# EAGLE library part PIC24FJ (library X893)
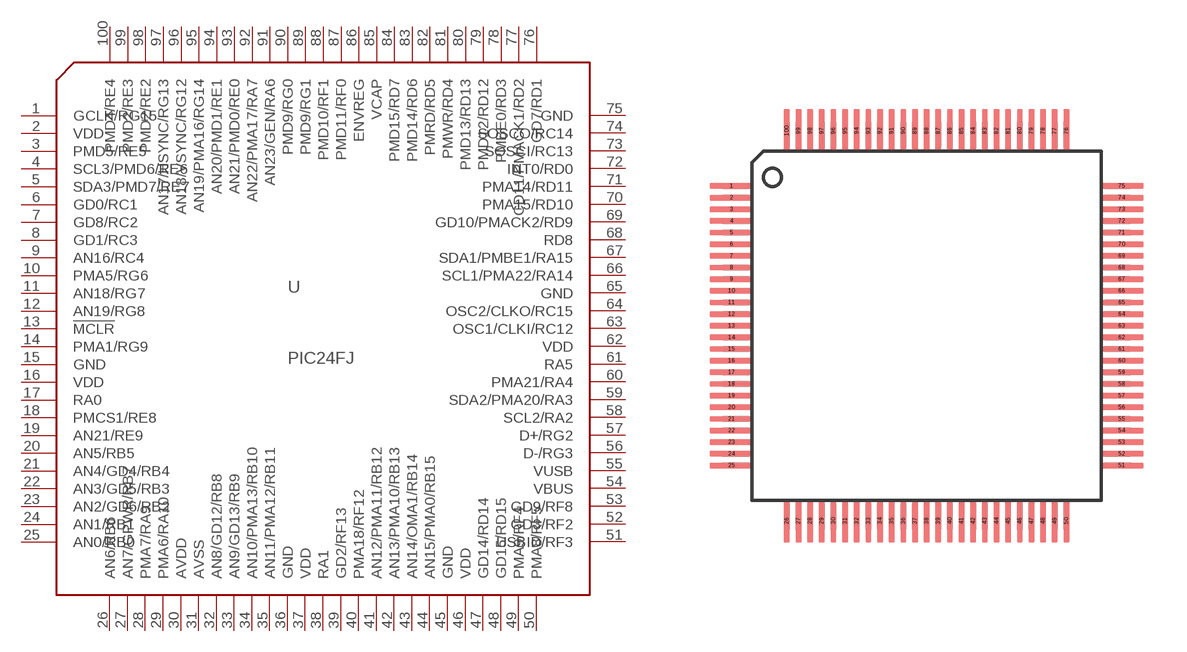
[diagram p125: symbol with the pads of TQFP100-12X12; footprint TQFP100-12X12]

Designator prefix U

## PIC24FJ256DA210  [TQFP100-12X12]
1  GCLK/RG15
2  VDD
3  PMD5/RE5
4  SCL3/PMD6/RE6
5  SDA3/PMD7/RE7
6  GD0/RC1
7  GD8/RC2
8  GD1/RC3
9  AN16/RC4
10  PMA5/RG6
11  AN18/RG7
12  AN19/RG8
13  !MCLR
14  PMA1/RG9
15  GND
16  VDD
17  RA0
18  PMCS1/RE8
19  AN21/RE9
20  AN5/RB5
21  AN4/GD4/RB4
22  AN3/GD5/RB3
23  AN2/GD6/RB2
24  AN1/RB1
25  AN0/RB0
26  AN6/RB6
27  AN7/GPWR/RB7
28  PMA7/RA9
29  PMA6/RA10
30  AVDD
31  AVSS
32  AN8/GD12/RB8
33  AN9/GD13/RB9
34  AN10/PMA13/RB10
35  AN11/PMA12/RB11
36  GND
37  VDD
38  RA1
39  GD2/RF13
40  PMA18/RF12
41  AN12/PMA11/RB12
42  AN13/PMA10/RB13
43  AN14/OMA1/RB14
44  AN15/PMA0/RB15
45  GND
46  VDD
47  GD14/RD14
48  GD15/RD15
49  PMA9/RF4
50  PMA8/RF5
51  USBID/RF3
52  GD3/RF2
53  GD9/RF8
54  VBUS
55  VUSB
56  D-/RG3
57  D+/RG2
58  SCL2/RA2
59  SDA2/PMA20/RA3
60  PMA21/RA4
61  RA5
62  VDD
63  OSC1/CLKI/RC12
64  OSC2/CLKO/RC15
65  GND
66  SCL1/PMA22/RA14
67  SDA1/PMBE1/RA15
68  RD8
69  GD10/PMACK2/RD9
70  PMA15/RD10
71  PMA14/RD11
72  INT0/RD0
73  SOSCI/RC13
74  SOSCO/RC14
75  GND
76  GD7/RD1
77  CD11/PMACK1/RD2
78  PMBE0/RD3
79  PMD12/RD12
80  PMD13/RD13
81  PMWR/RD4
82  PMRD/RD5
83  PMD14/RD6
84  PMD15/RD7
85  VCAP
86  ENVREG
87  PMD11/RF0
88  PMD10/RF1
89  PMD9/RG1
90  PMD9/RG0
91  AN23/GEN/RA6
92  AN22/PMA17/RA7
93  AN21/PMD0/RE0
94  AN20/PMD1/RE1
95  AN19/PMA16/RG14
96  AN18/VSYNC/RG12
97  AN17/HSYNC/RG13
98  PMD2/RE2
99  PMD2/RE3
100  PMD4/RE4

## Footprint TQFP100-12X12 (pad centres in mm)
smd 1.5 x 0.2: 1 -6.7,4.8; 2 -6.7,4.4; 3 -6.7,4; 4 -6.7,3.6; 5 -6.7,3.2; 6 -6.7,2.8; 7 -6.7,2.4; 8 -6.7,2; 9 -6.7,1.6; 10 -6.7,1.2; 11 -6.7,0.8; 12 -6.7,0.4; 13 -6.7,0; 14 -6.7,-0.4; 15 -6.7,-0.8; 16 -6.7,-1.2; 17 -6.7,-1.6; 18 -6.7,-2; 19 -6.7,-2.4; 20 -6.7,-2.8; 21 -6.7,-3.2; 22 -6.7,-3.6; 23 -6.7,-4; 24 -6.7,-4.4; 25 -6.7,-4.8; 51 6.7,-4.8; 52 6.7,-4.4; 53 6.7,-4; 54 6.7,-3.6; 55 6.7,-3.2; 56 6.7,-2.8; 57 6.7,-2.4; 58 6.7,-2; 59 6.7,-1.6; 60 6.7,-1.2; 61 6.7,-0.8; 62 6.7,-0.4; 63 6.7,0; 64 6.7,0.4; 65 6.7,0.8; 66 6.7,1.2; 67 6.7,1.6; 68 6.7,2; 69 6.7,2.4; 70 6.7,2.8; 71 6.7,3.2; 72 6.7,3.6; 73 6.7,4; 74 6.7,4.4; 75 6.7,4.8
smd 0.2 x 1.5: 26 -4.8,-6.7; 27 -4.4,-6.7; 28 -4,-6.7; 29 -3.6,-6.7; 30 -3.2,-6.7; 31 -2.8,-6.7; 32 -2.4,-6.7; 33 -2,-6.7; 34 -1.6,-6.7; 35 -1.2,-6.7; 36 -0.8,-6.7; 37 -0.4,-6.7; 38 0,-6.7; 39 0.4,-6.7; 40 0.8,-6.7; 41 1.2,-6.7; 42 1.6,-6.7; 43 2,-6.7; 44 2.4,-6.7; 45 2.8,-6.7; 46 3.2,-6.7; 47 3.6,-6.7; 48 4,-6.7; 49 4.4,-6.7; 50 4.8,-6.7; 76 4.8,6.7; 77 4.4,6.7; 78 4,6.7; 79 3.6,6.7; 80 3.2,6.7; 81 2.8,6.7; 82 2.4,6.7; 83 2,6.7; 84 1.6,6.7; 85 1.2,6.7; 86 0.8,6.7; 87 0.4,6.7; 88 0,6.7; 89 -0.4,6.7; 90 -0.8,6.7; 91 -1.2,6.7; 92 -1.6,6.7; 93 -2,6.7; 94 -2.4,6.7; 95 -2.8,6.7; 96 -3.2,6.7; 97 -3.6,6.7; 98 -4,6.7; 99 -4.4,6.7; 100 -4.8,6.7